# Altium schematic symbol library 3299X-1-502LF.SchLib: 1 symbol
Pins are listed as number, name and electrical type; pins without a type are passive.

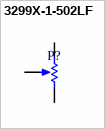
[diagram p0: symbol 3299X-1-502LF]

## 3299X-1-502LF
designator P?
pins: 1 TOP, 2 TAP, 3 BOT